# Altium footprint library Test.PcbLib: 22 footprints (part 1 of 2)
Each footprint in its own frame and in the unit in brackets; x right, y up, seen from the top. Pads: shape width x height; smd on the part's side, far side on the other; paste and mask are expansions set on the pad; w line width, h text height; cw(c..) or ccw(c..) is an arc to the next point about the centre after c.
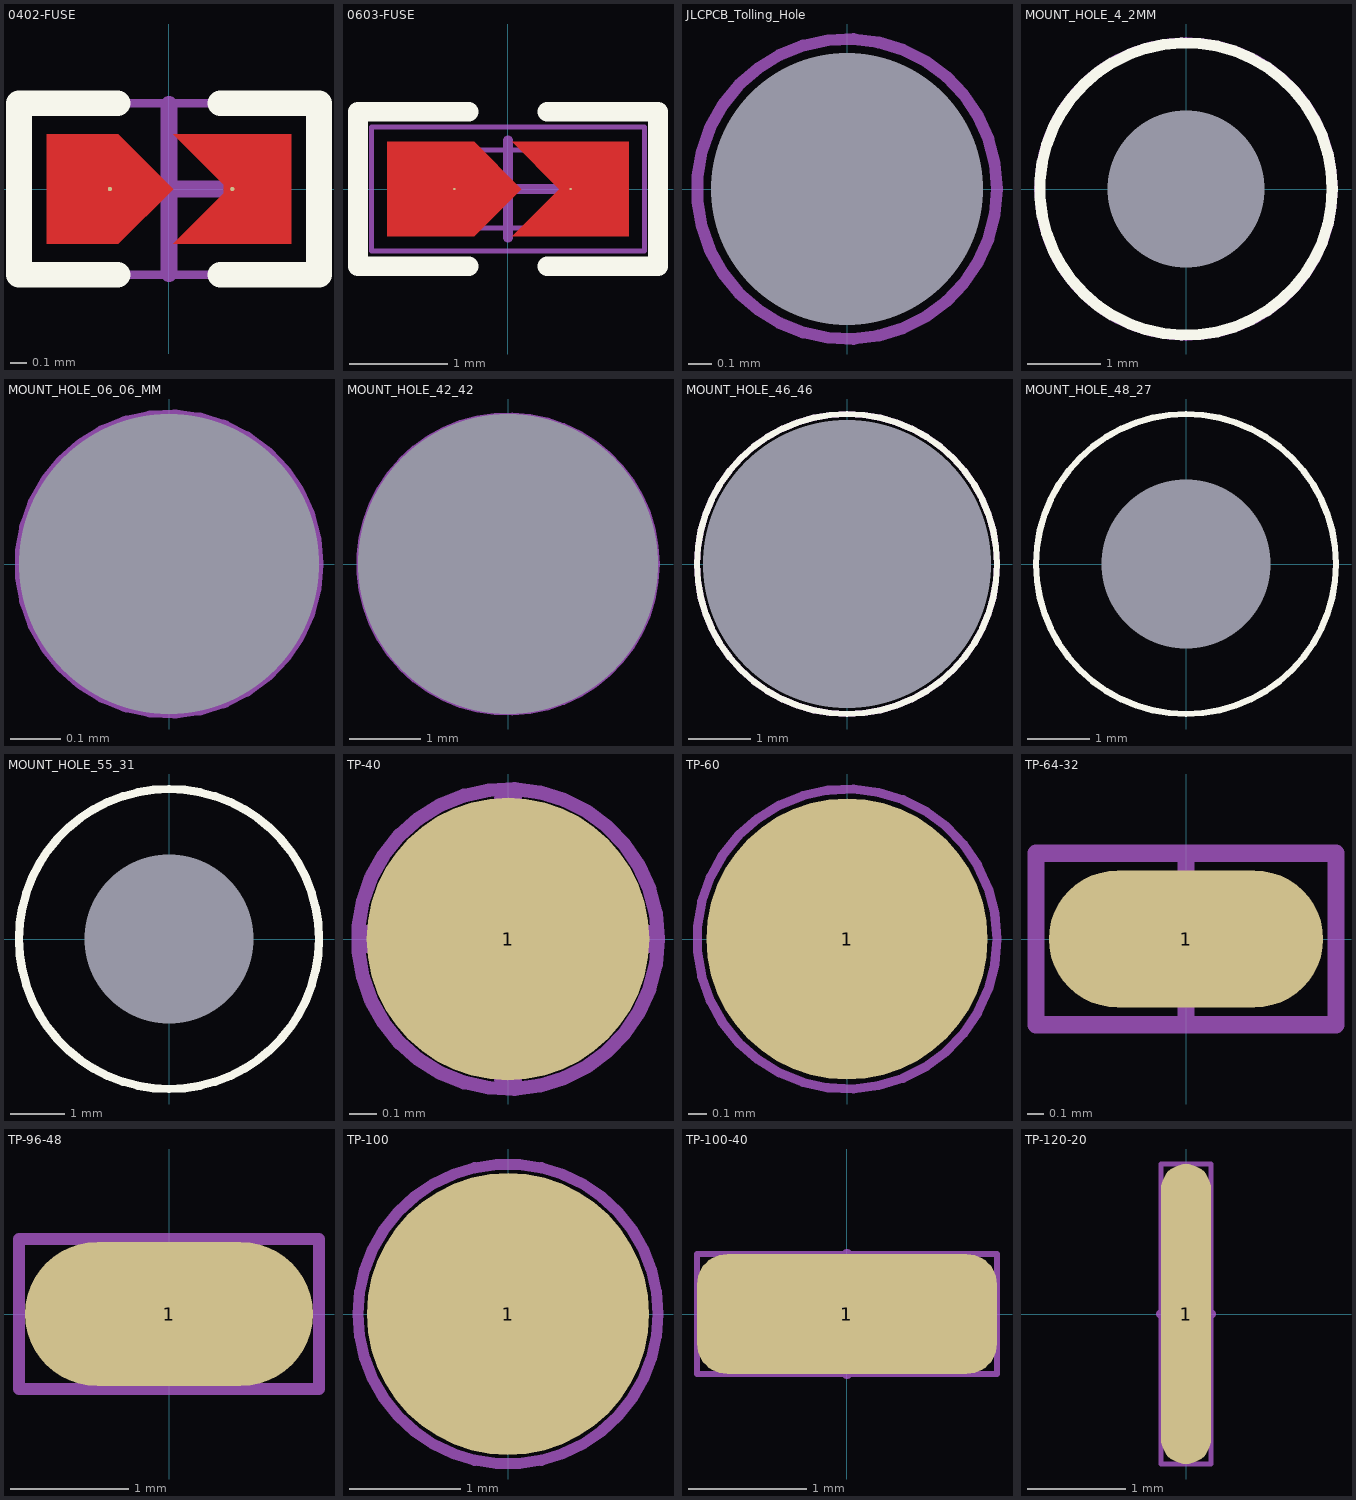
[diagram p0: the footprints below, top view; thin cyan lines are the x and y axes]

## 0402-FUSE [mil]
pads (2):
  round 1 smd: 1(-13.78,0) 2(14.76,0)
Top Layer:
  region: -28.54,-12.8 -28.54,12.8 -11.81,12.8 0.98,0 -11.81,-12.8
  region: 0.98,-12.8 28.54,-12.8 28.54,12.8 0.98,12.8 12.8,0.98 12.8,-0.98
Top Overlay:
  lines w6: -12.01,-20 -35,-20 -35,20 -12.01,20 ; 12.01,-20 35,-20 35,20 12.01,20
Top Component Center:
  lines w3.94: -19.68,0 19.69,0 ; 0,-19.68 0,19.69
Top Courtyard:
  lines w1.97: -35,-20 35,-20 35,20 -35,20 -35,-20

## 0603-FUSE [mil]
pads (2):
  round 1 smd: 1(-21.6,0) 2(25.2,0)
Top Layer:
  region: -48.6,-19 -13.6,-19 5.4,0 -13.6,19 -48.6,19
  region: 20.7,0 1.7,19 48.7,19 48.7,-19 1.7,-19
Top Overlay:
  lines w7.87: -15.75,-31.1 -60.43,-31.1 -60.43,31.1 -15.75,31.1 ; 15.75,-31.1 60.43,-31.1 60.43,31.1 15.75,31.1
Top Component Outline:
  lines w1.97: -33.25,-15.75 -33.25,15.75 29.75,15.75 29.75,-15.75 -33.25,-15.75
Top Component Center:
  lines w3.94: -19.68,0 19.69,0 ; 0,-19.68 0,19.69
Top Courtyard:
  lines w1.97: -55,-25 55,-25 55,25 -55,25 -55,-25

## JLCPCB_Tolling_Hole [mil]
pads (1):
  round 0 hole 45.35 mask-99999: 1(0,0)
Top Solder:
  circle w27.56: c0,0 r13.78
Bottom Solder:
  circle w27.56: c0,0 r13.78
Top Component Center:
  lines w3.94: -19.68,0 19.69,0 ; 0,-19.68 0,19.69
Top Courtyard:
  circle w1.97: c0,0 r25

## MOUNT_HOLE_4_2MM [mil]
pads (1):
  round 0 hole 84.72: 1(0,0)
Top Overlay:
  circle w6: c0,0 r78.74
Bottom Overlay:
  circle w6: c0,0 r78.74
Top Component Center:
  lines w3.94: -19.68,0 19.69,0 ; 0,-19.68 0,19.69
Top Courtyard:
  circle w1.97: c0,0 r80.78

## MOUNT_HOLE_06_06_MM [mm]
pads (1):
  round 0 hole 0.6: 1(0,0)
Top Component Center:
  lines w0.1: -0.254,0 0.254,0 ; 0,-0.254 0,0.254
Top Courtyard:
  circle w0.05: c0,0 r0.284

## MOUNT_HOLE_42_42 [mm] "For 4mm hole"
pads (1):
  round 0 hole 4.2: 1(0,0)
Top Overlay:
  circle w0.152: c0,0 r2
Bottom Overlay:
  circle w0.152: c0,0 r2
Top Component Center:
  lines w0.1: -0.5,0 0.5,0 ; 0,-0.5 0,0.5
Top Courtyard:
  circle w0.05: c0,0 r2.1
Bottom Courtyard:
  circle w0.05: c0,0 r2.1

## MOUNT_HOLE_46_46 [mm] "For 4.5mm hole"
pads (1):
  round 0 hole 4.6: 1(0,0)
Top Overlay:
  circle w0.1: c0,0 r2.4
Bottom Overlay:
  circle w0.1: c0,0 r2.4
Top Component Center:
  lines w0.1: -0.5,0 0.5,0 ; 0,-0.5 0,0.5
Top Courtyard:
  circle w0.1: c0,0 r2.4
Bottom Courtyard:
  circle w0.1: c0,0 r2.4

## MOUNT_HOLE_48_27 [mm]
pads (1):
  round 0 hole 2.7 mask+0.102: 1(0,0)
Top Overlay:
  circle w0.1: c0,0 r2.4
Bottom Overlay:
  circle w0.1: c0,0 r2.4
Top Component Center:
  lines w0.1: -0.5,0 0.5,0 ; 0,-0.5 0,0.5
Top Courtyard:
  circle w0.05: c0,0 r2.4
Bottom Courtyard:
  circle w0.05: c0,0 r2.4

## MOUNT_HOLE_55_31 [mm] "5.5mm 3.1mm mounting hole"
pads (1):
  round 0 hole 3.1 mask-2539.97: 1(0,0)
Top Overlay:
  circle w0.152: c0,0 r2.75
Bottom Overlay:
  circle w0.152: c0,0 r2.75
Top Solder:
  circle w1.6: c0,0 r0.8
Bottom Solder:
  circle w1.6: c0,0 r0.8
Top Component Center:
  lines w0.1: -0.5,0 0.5,0 ; 0,-0.5 0,0.5
Top Courtyard:
  circle w0.05: c0,0 r2.747

## TP-40 [mil]
pads (1):
  round 40 smd: 1(0,0)
Top Component Center:
  lines w3.94: -19.68,0 19.69,0 ; 0,-19.68 0,19.69
Top Courtyard:
  circle w1.97: c0,0 r21.21

## TP-60 [mil]
pads (1):
  round 60 smd: 1(0,0)
Top Component Center:
  lines w3.94: -19.68,0 19.69,0 ; 0,-19.68 0,19.69
Top Courtyard:
  circle w1.97: c0,0 r32.02

## TP-64-32 [mil]
pads (1):
  oval 64x32 smd: 1(0,0)
Top Component Center:
  lines w3.94: -19.68,0 19.69,0 ; 0,-19.68 0,19.69
Top Courtyard:
  lines w4: -35,-20 35,-20 35,20 -35,20 -35,-20

## TP-96-48 [mil]
pads (1):
  oval 96x48 smd: 1(0,0)
Top Component Center:
  lines w3.94: -19.68,0 19.69,0 ; 0,-19.68 0,19.69
Top Courtyard:
  lines w4: -50,-25 50,-25 50,25 -50,25 -50,-25

## TP-100 [mil]
pads (1):
  round 100 smd: 1(0,0)
Top Component Center:
  lines w3.94: -19.68,0 19.69,0 ; 0,-19.68 0,19.69
Top Courtyard:
  circle w3.94: c0,0 r53.15

## TP-100-40 [mil]
pads (1):
  rrect50% 100x40 smd: 1(0,0)
Top Component Center:
  lines w3.94: -19.68,0 19.69,0 ; 0,-19.68 0,19.69
Top Courtyard:
  lines w1.97: -50,-20 50,-20 50,20 -50,20 -50,-20

## TP-120-20 [mil]
pads (1):
  oval 20x120 smd: 1(0,0)
Top Component Center:
  lines w3.94: -10,0 10,0 ; 0,-19.68 0,19.69
Top Courtyard:
  lines w1.97: -10,-60 10,-60 10,60 -10,60 -10,-60